# EAGLE library part RASPBERRY_PI_B+_I2S (library debauer_modules)
Raspberry Pi B+ Based on issue: Thursday, July 10, 2014 - Rev 1.2 LBR by Tim R. 07-2014
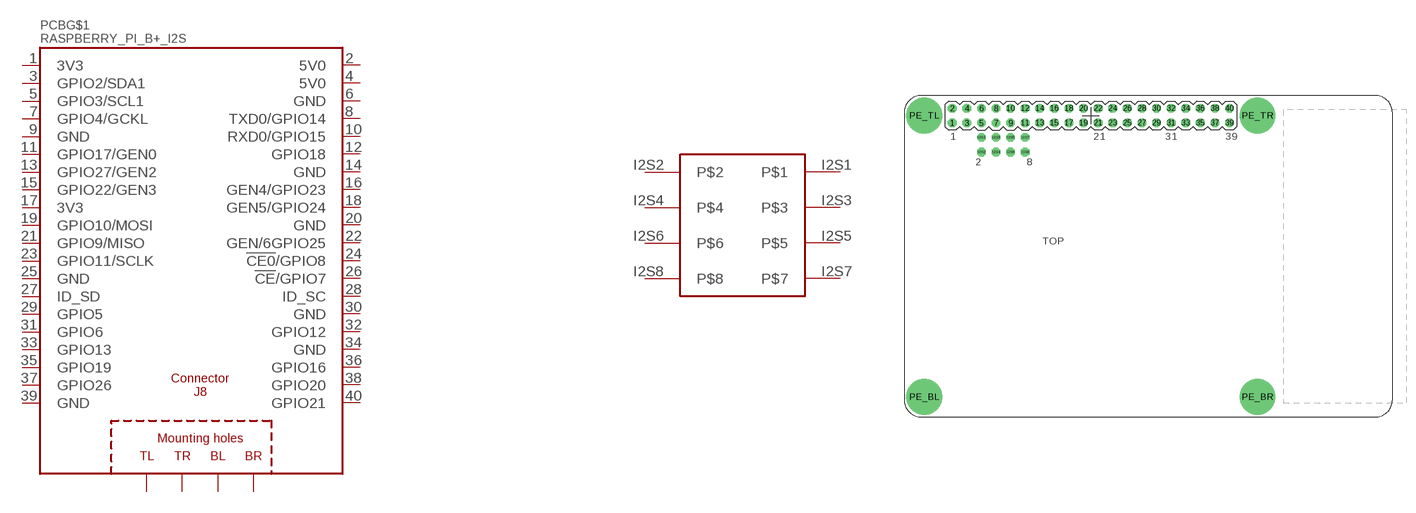
[diagram p23: symbol with the pads of RASPBERRY_PI_B+_I2S; footprint RASPBERRY_PI_B+_I2S]

Designator prefix PCB; gates G$1=RASPBERRY_PI_B+ G$2=RASPBERRY_PI_I2S

## RASPBERRY_PI_B+_I2S  [RASPBERRY_PI_B+_I2S]
1  G$1:3V3  sup
2  G$1:5V0  sup
3  G$1:GPIO2/SDA1
4  G$1:5V0  sup
5  G$1:GPIO3/SCL1
6  G$1:GND  sup
7  G$1:GPIO4/GCKL
8  G$1:TXD0/GPIO14
9  G$1:GND  sup
10  G$1:RXD0/GPIO15
11  G$1:GPIO17/GEN0
12  G$1:GPIO18
13  G$1:GPIO27/GEN2
14  G$1:GND  sup
15  G$1:GPIO22/GEN3
16  G$1:GEN4/GPIO23
17  G$1:3V3  sup
18  G$1:GEN5/GPIO24
19  G$1:GPIO10/MOSI
20  G$1:GND  sup
21  G$1:GPIO9/MISO
22  G$1:GEN/6GPIO25
23  G$1:GPIO11/SCLK
24  G$1:!CE0!/GPIO8
25  G$1:GND  sup
26  G$1:!CE!/GPIO7
27  G$1:ID_SD
28  G$1:ID_SC
29  G$1:GPIO5
30  G$1:GND  sup
31  G$1:GPIO6
32  G$1:GPIO12
33  G$1:GPIO13
34  G$1:GND  sup
35  G$1:GPIO19
36  G$1:GPIO16
37  G$1:GPIO26
38  G$1:GPIO20
39  G$1:GND  sup
40  G$1:GPIO21
I2S1  G$2:P$1
I2S2  G$2:P$2
I2S3  G$2:P$3
I2S4  G$2:P$4
I2S5  G$2:P$5
I2S6  G$2:P$6
I2S7  G$2:P$7
I2S8  G$2:P$8
PE_BL  G$1:BL
PE_BR  G$1:BR
PE_TL  G$1:TL
PE_TR  G$1:TR

## Footprint RASPBERRY_PI_B+_I2S (pad centres in mm)
drill 1.016 octagon: 1 8.37,51.23; 2 8.37,53.77; 3 10.91,51.23; 4 10.91,53.77; 5 13.45,51.23; 6 13.45,53.77; 7 15.99,51.23; 8 15.99,53.77; 9 18.53,51.23; 10 18.53,53.77; 11 21.07,51.23; 12 21.07,53.77; 13 23.61,51.23; 14 23.61,53.77; 15 26.15,51.23; 16 26.15,53.77; 17 28.69,51.23; 18 28.69,53.77; 19 31.23,51.23; 20 31.23,53.77; 21 33.77,51.23; 22 33.77,53.77; 23 36.31,51.23; 24 36.31,53.77; 25 38.85,51.23; 26 38.85,53.77; 27 41.39,51.23; 28 41.39,53.77; 29 43.93,51.23; 30 43.93,53.77; 31 46.47,51.23; 32 46.47,53.77; 33 49.01,51.23; 34 49.01,53.77; 35 51.55,51.23; 36 51.55,53.77; 37 54.09,51.23; 38 54.09,53.77; 39 56.63,51.23; 40 56.63,53.77; I2S1 13.45,48.69; I2S2 13.45,46.15; I2S3 15.99,48.69; I2S4 15.99,46.15; I2S5 18.53,48.69; I2S6 18.53,46.15; I2S7 21.07,48.69; I2S8 21.07,46.15
drill 2.75 pad 6.2: PE_BL 3.5,3.5; PE_BR 61.5,3.5; PE_TL 3.5,52.5; PE_TR 61.5,52.5